# EAGLE library part INSECTCHIP2A (library harrison)
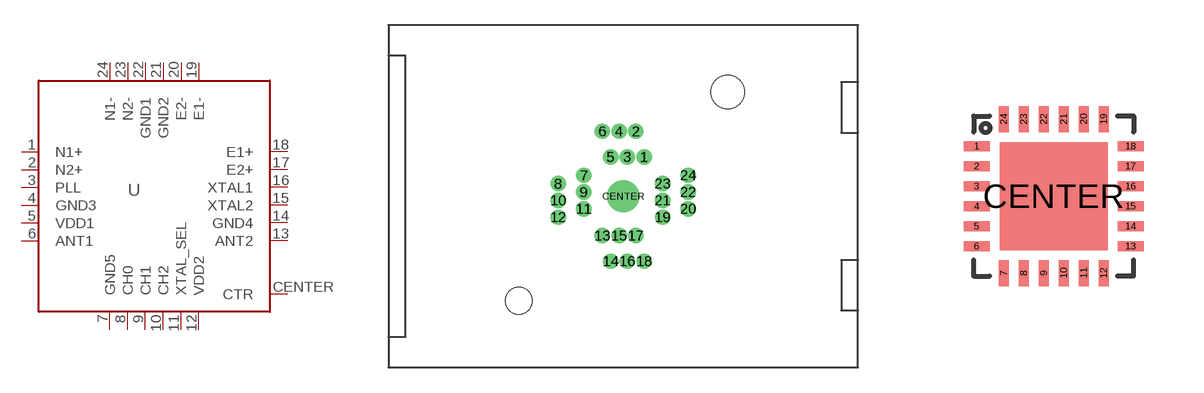
[diagram p36: symbol with the pads of ZIF_QFN24_4_X_4; footprints ZIF_QFN24_4_X_4, QFN24_4_X_4]

Designator prefix U

## INSECTCHIP2AZIF  [ZIF_QFN24_4_X_4]
1  N1+  in
2  N2+  in
3  PLL  pas
4  GND3  pwr
5  VDD1  pwr
6  ANT1  pas
7  GND5  pwr
8  CH0  in
9  CH1  in
10  CH2  in
11  XTAL_SEL  in
12  VDD2  pwr
13  ANT2  pas
14  GND4  pwr
15  XTAL2  pas
16  XTAL1  pas
17  E2+  in
18  E1+  in
19  E1-  in
20  E2-  in
21  GND2  pwr
22  GND1  pwr
23  N2-  in
24  N1-  in
CENTER  CTR  pwr

## INSECTCHIP2AQFN  [QFN24_4_X_4]
Pads as for ZIF_QFN24_4_X_4

## Footprint ZIF_QFN24_4_X_4 (pad centres in mm)
drill 0.41 pad 0.813: 1 1.25,2.35; 2 0.75,3.875; 3 0.25,2.35; 4 -0.25,3.875; 5 -0.75,2.35; 6 -1.25,3.875; 7 -2.35,1.25; 8 -3.875,0.75; 9 -2.35,0.25; 10 -3.875,-0.25; 11 -2.35,-0.75; 12 -3.875,-1.25; 13 -1.25,-2.35; 14 -0.75,-3.875; 15 -0.25,-2.35; 16 0.25,-3.875; 17 0.75,-2.35; 18 1.25,-3.875; 19 2.35,-1.25; 20 3.875,-0.75; 21 2.35,-0.25; 22 3.875,0.25; 23 2.35,0.75; 24 3.875,1.25
drill 1.02 pad 1.93: CENTER 0,0
hole 1.6 at -6.23,-6.23
hole 2 at 6.22,6.22

## Footprint QFN24_4_X_4 (pad centres in mm)
smd 0.65 x 0.25: 1 -1.925,1.25; 2 -1.925,0.75; 3 -1.925,0.25; 4 -1.925,-0.25; 5 -1.925,-0.75; 6 -1.925,-1.25; 13 1.925,-1.25; 14 1.925,-0.75; 15 1.925,-0.25; 16 1.925,0.25; 17 1.925,0.75; 18 1.925,1.25
smd 0.25 x 0.65: 7 -1.25,-1.925; 8 -0.75,-1.925; 9 -0.25,-1.925; 10 0.25,-1.925; 11 0.75,-1.925; 12 1.25,-1.925; 19 1.25,1.925; 20 0.75,1.925; 21 0.25,1.925; 22 -0.25,1.925; 23 -0.75,1.925; 24 -1.25,1.925
smd 2.7 x 2.7: CENTER 0,0